# Altium footprint library LPON_CAP.PcbLib: 108 footprints (part 2 of 7)
Each footprint in its own frame and in the unit in brackets; x right, y up, seen from the top. Pads: shape width x height; smd on the part's side, far side on the other; paste and mask are expansions set on the pad; w line width, h text height; cw(c..) or ccw(c..) is an arc to the next point about the centre after c.
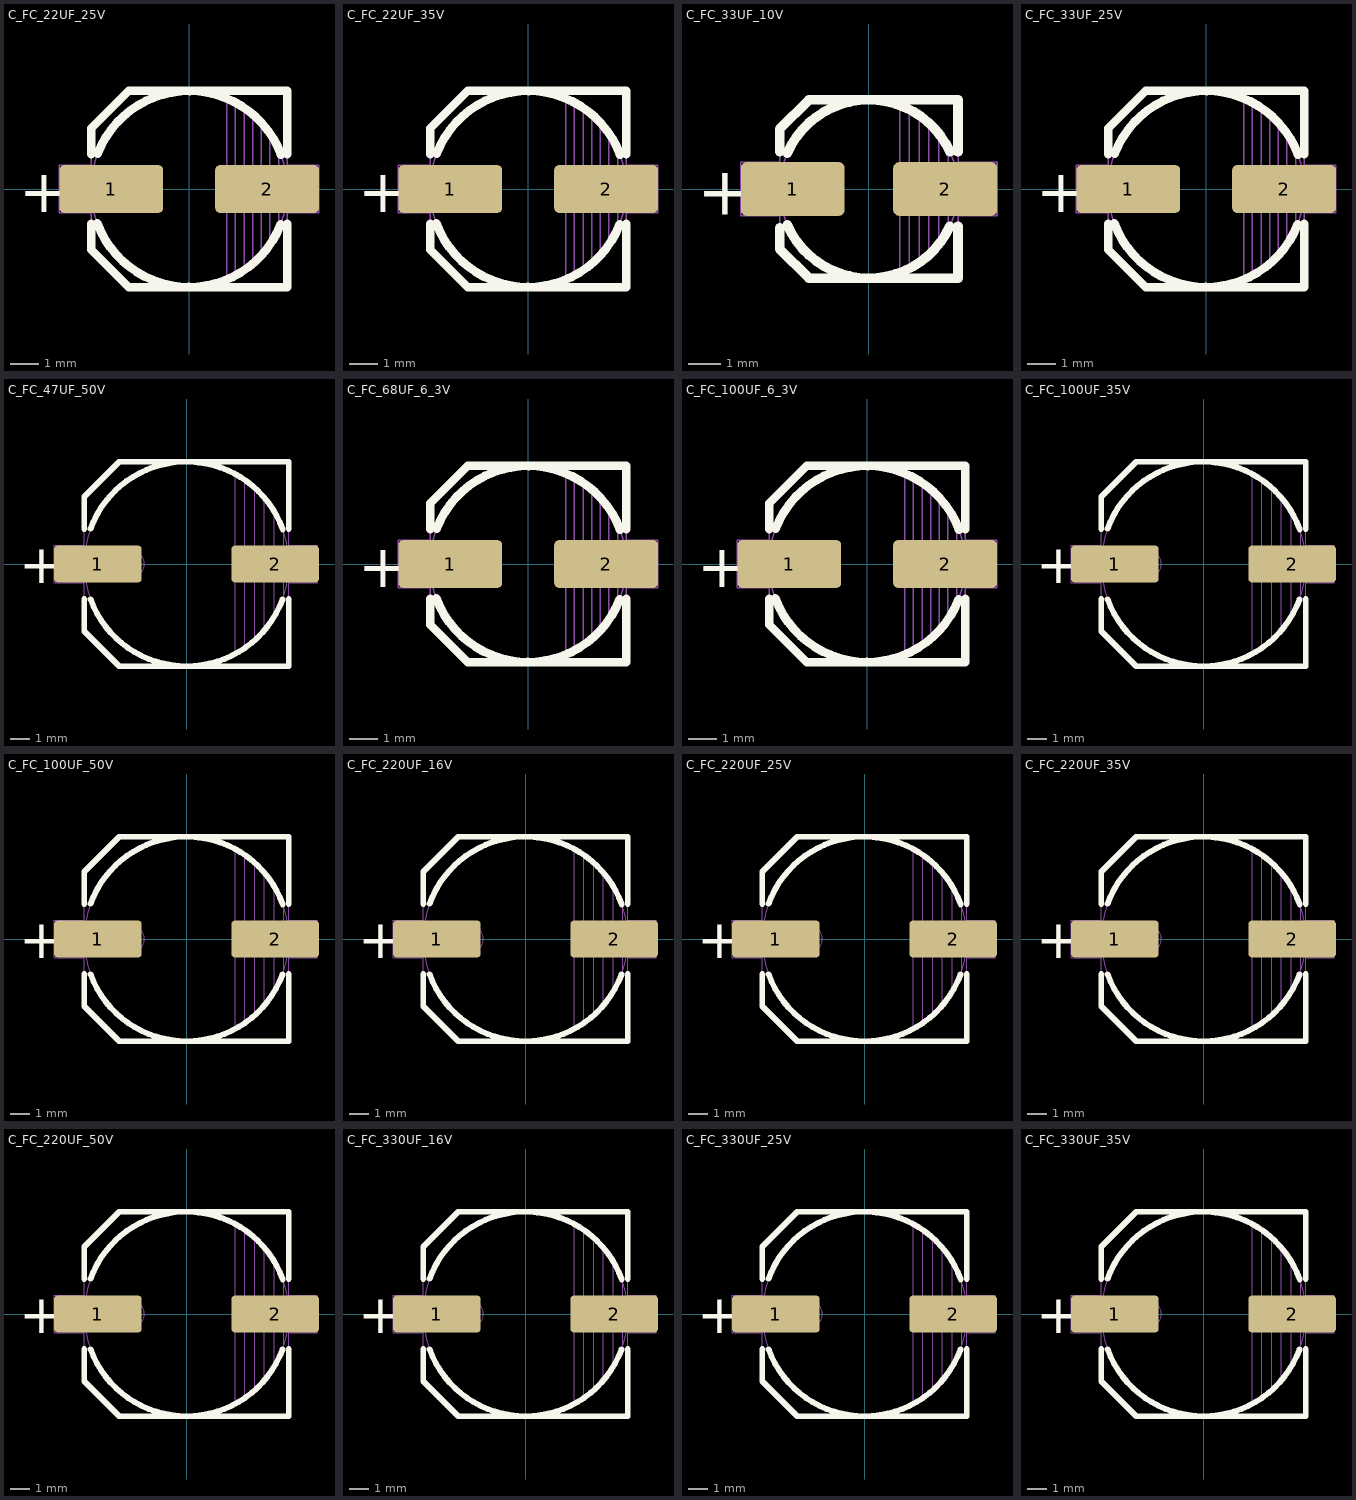
[diagram p1: the footprints below, top view; thin cyan lines are the x and y axes]

## C_FC_22UF_25V [mm] "ALUMINUM CAPACITOR 6.8x6.8x5.5mm"
height 5.5
pads (2):
  rrect20% 3.6x1.65 smd mask+0.1: 1(-2.7,0) 2(2.7,0)
Top Overlay:
  lines w0.3: -3.4,-1.2 -3.4,-2.1 -2.1,-3.4 3.4,-3.4 3.4,-1.2 ; -3.4,1.2 -3.4,2.1 -2.1,3.4 3.4,3.4 3.4,1.2 ; -3.184,-1.194 ccw(c0,0) 3.171,-1.227 ; -3.171,1.227 cw(c0,0) 3.184,1.194
  text "+" at -5.9,-0.8 h1.5
Mechanical 1:
  circle w0.05: c0,0 r3.4
  circle w0.05: c-2.54,0 r0.671
  lines w0.05: -3.4,-0.825 -4.5,-0.825 -4.5,0.825 -3.4,0.825 ; 1.3,-3.14 1.3,3.13 ; 1.6,-3 1.6,3 ; 1.9,-2.81 1.9,2.82 ; 2.2,-2.58 2.2,2.59 ; 2.5,-2.29 2.5,2.3 ; 2.8,-1.92 2.8,1.91 ; 3.1,-1.38 3.1,1.39 ; 3.4,-0.825 4.5,-0.825 4.5,0.825 3.4,0.825 ; 3.4,-3.4 3.4,3.4 ; 3.4,-3.4 3.4,3.4 ; 3.4,-3.4 -2.1,-3.4 -3.4,-2.1 -3.4,2.1 -2.1,3.4 3.4,3.4
  text "+" at -3.2,-1 h2
3D body "User Library-E-cap_H.step": height 7.7, standoff 0, extent -3.65,-3.3 3.65,3.3

## C_FC_22UF_35V [mm] "ALUMINUM CAPACITOR 6.8x6.8x5.5mm"
height 5.5
pads (2):
  rrect20% 3.6x1.65 smd mask+0.1: 1(-2.7,0) 2(2.7,0)
Top Overlay:
  lines w0.3: -3.4,-1.2 -3.4,-2.1 -2.1,-3.4 3.4,-3.4 3.4,-1.2 ; -3.4,1.2 -3.4,2.1 -2.1,3.4 3.4,3.4 3.4,1.2 ; -3.184,-1.194 ccw(c0,0) 3.171,-1.227 ; -3.171,1.227 cw(c0,0) 3.184,1.194
  text "+" at -5.9,-0.8 h1.5
Mechanical 1:
  circle w0.05: c0,0 r3.4
  circle w0.05: c-2.54,0 r0.671
  lines w0.05: -3.4,-0.825 -4.5,-0.825 -4.5,0.825 -3.4,0.825 ; 1.3,-3.14 1.3,3.13 ; 1.6,-3 1.6,3 ; 1.9,-2.81 1.9,2.82 ; 2.2,-2.58 2.2,2.59 ; 2.5,-2.29 2.5,2.3 ; 2.8,-1.92 2.8,1.91 ; 3.1,-1.38 3.1,1.39 ; 3.4,-0.825 4.5,-0.825 4.5,0.825 3.4,0.825 ; 3.4,-3.4 3.4,3.4 ; 3.4,-3.4 3.4,3.4 ; 3.4,-3.4 -2.1,-3.4 -3.4,-2.1 -3.4,2.1 -2.1,3.4 3.4,3.4
  text "+" at -3.2,-1 h2
3D body "User Library-E-cap_H.step": height 7.7, standoff 0, extent -3.65,-3.3 3.65,3.3

## C_FC_33UF_10V [mm] "ALUMINUM CAPACITOR 5.5x5.5x5.5mm"
height 5.5
pads (2):
  rrect20% 3.2x1.65 smd mask+0.1: 1(-2.35,0) 2(2.35,0)
Top Overlay:
  lines w0.3: -2.75,-1.2 -2.75,-1.85 -1.85,-2.75 2.75,-2.75 2.75,-1.15 ; -2.75,1.15 -2.75,1.85 -1.85,2.75 2.75,2.75 2.75,1.15 ; -2.517,-1.108 ccw(c0,0) 2.497,-1.152 ; -2.517,1.108 cw(c0,0) 2.5,1.146
  text "+" at -5.3,-0.8 h1.5
Mechanical 1:
  circle w0.05: c0,0 r2.75
  circle w0.05: c-1.84,0 r0.671
  lines w0.05: -2.75,-0.825 -3.95,-0.825 -3.95,0.825 -2.75,0.825 ; 0.95,-2.55 0.95,2.55 ; 1.25,-2.45 1.25,2.45 ; 1.55,-2.25 1.55,2.25 ; 1.85,-2 1.85,2 ; 2.15,-1.7 2.15,1.7 ; 2.45,-1.25 2.45,1.25 ; 2.75,-0.825 3.95,-0.825 3.95,0.825 2.75,0.825 ; -2.75,-1.85 -2.75,1.85 -1.85,2.75 2.75,2.75 2.75,-2.75 -1.85,-2.75 -2.75,-1.85
  text "+" at -2.5,-1 h2
3D body "User Library-E-cap_H.step": height 7.7, standoff 0, extent -3.65,-3.3 3.65,3.3

## C_FC_33UF_25V [mm] "ALUMINUM CAPACITOR 6.8x6.8x5.5mm"
height 5.5
pads (2):
  rrect20% 3.6x1.65 smd mask+0.1: 1(-2.7,0) 2(2.7,0)
Top Overlay:
  lines w0.3: -3.4,-1.2 -3.4,-2.1 -2.1,-3.4 3.4,-3.4 3.4,-1.2 ; -3.4,1.2 -3.4,2.1 -2.1,3.4 3.4,3.4 3.4,1.2 ; -3.184,-1.194 ccw(c0,0) 3.171,-1.227 ; -3.171,1.227 cw(c0,0) 3.184,1.194
  text "+" at -5.9,-0.8 h1.5
Mechanical 1:
  circle w0.05: c0,0 r3.4
  circle w0.05: c-2.54,0 r0.671
  lines w0.05: -3.4,-0.825 -4.5,-0.825 -4.5,0.825 -3.4,0.825 ; 1.3,-3.14 1.3,3.13 ; 1.6,-3 1.6,3 ; 1.9,-2.81 1.9,2.82 ; 2.2,-2.58 2.2,2.59 ; 2.5,-2.29 2.5,2.3 ; 2.8,-1.92 2.8,1.91 ; 3.1,-1.38 3.1,1.39 ; 3.4,-0.825 4.5,-0.825 4.5,0.825 3.4,0.825 ; 3.4,-3.4 3.4,3.4 ; 3.4,-3.4 3.4,3.4 ; 3.4,-3.4 -2.1,-3.4 -3.4,-2.1 -3.4,2.1 -2.1,3.4 3.4,3.4
  text "+" at -3.2,-1 h2
3D body "User Library-E-cap_H.step": height 7.7, standoff 0, extent -3.65,-3.3 3.65,3.3

## C_FC_47UF_50V [mm] "ALUMINUM CAPACITOR 10.5x10.5x10.5mm"
height 10.5
pads (2):
  rrect20% 4.5x1.9 smd mask+0.1: 1(-4.55,0) 2(4.55,0)
Top Overlay:
  lines w0.3: -5.25,-1.8 -5.25,-3.45 -3.45,-5.25 5.25,-5.25 5.25,-1.8 ; -5.25,1.8 -5.25,3.45 -3.45,5.25 5.25,5.25 5.25,1.8 ; -4.928,-1.81 ccw(c0,0) 4.928,-1.81 ; -4.928,1.81 cw(c0,0) 4.94,1.778
  text "+" at -8.6,-1 h2
Mechanical 1:
  circle w0.05: c-2.84,0 r0.671
  circle w0.05: c0,0 r5.25
  lines w0.05: -5.25,-0.95 -6.8,-0.95 -6.8,0.95 -5.25,0.95 ; 2.5,-4.6 2.5,4.6 ; 3,-4.3 3,4.3 ; 3.5,-3.9 3.5,3.9 ; 4,-3.4 4,3.4 ; 4.5,-2.7 4.5,2.7 ; 5,-1.6 5,1.6 ; 5.25,-0.95 6.7,-0.95 6.7,0.95 5.25,0.95 ; -5.25,-3.45 -3.45,-5.25 5.25,-5.25 5.25,5.25 -3.45,5.25 -5.25,3.45 -5.25,-3.45
  text "+" at -3.5,-1 h2
3D body "User Library-cap_10x10x10-1.STEP": height 10.5, standoff 0, extent -5.901,-5.25 5.899,5.25

## C_FC_68UF_6_3V [mm] "ALUMINUM CAPACITOR 6.8x6.8x5.5mm"
height 5.5
pads (2):
  rrect20% 3.6x1.65 smd mask+0.1: 1(-2.7,0) 2(2.7,0)
Top Overlay:
  lines w0.3: -3.4,-1.2 -3.4,-2.1 -2.1,-3.4 3.4,-3.4 3.4,-1.2 ; -3.4,1.2 -3.4,2.1 -2.1,3.4 3.4,3.4 3.4,1.2 ; -3.184,-1.194 ccw(c0,0) 3.171,-1.227 ; -3.171,1.227 cw(c0,0) 3.184,1.194
  text "+" at -5.9,-0.8 h1.5
Mechanical 1:
  circle w0.05: c0,0 r3.4
  circle w0.05: c-2.54,0 r0.671
  lines w0.05: -3.4,-0.825 -4.5,-0.825 -4.5,0.825 -3.4,0.825 ; 1.3,-3.14 1.3,3.13 ; 1.6,-3 1.6,3 ; 1.9,-2.81 1.9,2.82 ; 2.2,-2.58 2.2,2.59 ; 2.5,-2.29 2.5,2.3 ; 2.8,-1.92 2.8,1.91 ; 3.1,-1.38 3.1,1.39 ; 3.4,-0.825 4.5,-0.825 4.5,0.825 3.4,0.825 ; 3.4,-3.4 3.4,3.4 ; 3.4,-3.4 3.4,3.4 ; 3.4,-3.4 -2.1,-3.4 -3.4,-2.1 -3.4,2.1 -2.1,3.4 3.4,3.4
  text "+" at -3.2,-1 h2
3D body "User Library-E-cap_H.step": height 7.7, standoff 0, extent -3.65,-3.3 3.65,3.3

## C_FC_100UF_6_3V [mm] "ALUMINUM CAPACITOR 6.8x6.8x5.5mm"
height 5.5
pads (2):
  rrect20% 3.6x1.65 smd mask+0.1: 1(-2.7,0) 2(2.7,0)
Top Overlay:
  lines w0.3: -3.4,-1.2 -3.4,-2.1 -2.1,-3.4 3.4,-3.4 3.4,-1.2 ; -3.4,1.2 -3.4,2.1 -2.1,3.4 3.4,3.4 3.4,1.2 ; -3.184,-1.194 ccw(c0,0) 3.171,-1.227 ; -3.171,1.227 cw(c0,0) 3.184,1.194
  text "+" at -5.9,-0.8 h1.5
Mechanical 1:
  circle w0.05: c0,0 r3.4
  circle w0.05: c-2.54,0 r0.671
  lines w0.05: -3.4,-0.825 -4.5,-0.825 -4.5,0.825 -3.4,0.825 ; 1.3,-3.14 1.3,3.13 ; 1.6,-3 1.6,3 ; 1.9,-2.81 1.9,2.82 ; 2.2,-2.58 2.2,2.59 ; 2.5,-2.29 2.5,2.3 ; 2.8,-1.92 2.8,1.91 ; 3.1,-1.38 3.1,1.39 ; 3.4,-0.825 4.5,-0.825 4.5,0.825 3.4,0.825 ; 3.4,-3.4 3.4,3.4 ; 3.4,-3.4 3.4,3.4 ; 3.4,-3.4 -2.1,-3.4 -3.4,-2.1 -3.4,2.1 -2.1,3.4 3.4,3.4
  text "+" at -3.2,-1 h2
3D body "User Library-E-cap_H.step": height 7.7, standoff 0, extent -3.65,-3.3 3.65,3.3

## C_FC_100UF_35V [mm] "ALUMINUM CAPACITOR 10.5x10.5x10.5mm"
height 10.5
pads (2):
  rrect20% 4.5x1.9 smd mask+0.1: 1(-4.55,0) 2(4.55,0)
Top Overlay:
  lines w0.3: -5.25,-1.8 -5.25,-3.45 -3.45,-5.25 5.25,-5.25 5.25,-1.8 ; -5.25,1.8 -5.25,3.45 -3.45,5.25 5.25,5.25 5.25,1.8 ; -4.928,-1.81 ccw(c0,0) 4.928,-1.81 ; -4.928,1.81 cw(c0,0) 4.94,1.778
  text "+" at -8.6,-1 h2
Mechanical 1:
  circle w0.05: c0,0 r5.25
  circle w0.05: c-2.84,0 r0.671
  lines w0.05: -5.25,-0.95 -6.8,-0.95 -6.8,0.95 -5.25,0.95 ; 2.5,-4.6 2.5,4.6 ; 3,-4.3 3,4.3 ; 3.5,-3.9 3.5,3.9 ; 4,-3.4 4,3.4 ; 4.5,-2.7 4.5,2.7 ; 5,-1.6 5,1.6 ; 5.25,-0.95 6.7,-0.95 6.7,0.95 5.25,0.95 ; -5.25,-3.45 -5.25,3.45 -3.45,5.25 5.25,5.25 5.25,-5.25 -3.45,-5.25 -5.25,-3.45
  text "+" at -3.5,-1 h2
3D body "User Library-cap_10x10x10-1.STEP": height 10.5, standoff 0, extent -5.901,-5.25 5.899,5.25

## C_FC_100UF_50V [mm] "ALUMINUM CAPACITOR 10.5x10.5x10.5mm"
height 10.5
pads (2):
  rrect20% 4.5x1.9 smd mask+0.1: 1(-4.55,0) 2(4.55,0)
Top Overlay:
  lines w0.3: -5.25,-1.8 -5.25,-3.45 -3.45,-5.25 5.25,-5.25 5.25,-1.8 ; -5.25,1.8 -5.25,3.45 -3.45,5.25 5.25,5.25 5.25,1.8 ; -4.928,-1.81 ccw(c0,0) 4.928,-1.81 ; -4.928,1.81 cw(c0,0) 4.94,1.778
  text "+" at -8.6,-1 h2
Mechanical 1:
  circle w0.05: c0,0 r5.25
  circle w0.05: c-2.84,0 r0.671
  lines w0.05: -5.25,-0.95 -6.8,-0.95 -6.8,0.95 -5.25,0.95 ; 2.5,-4.6 2.5,4.6 ; 3,-4.3 3,4.3 ; 3.5,-3.9 3.5,3.9 ; 4,-3.4 4,3.4 ; 4.5,-2.7 4.5,2.7 ; 5,-1.6 5,1.6 ; 5.25,-0.95 6.7,-0.95 6.7,0.95 5.25,0.95 ; -5.25,-3.45 -5.25,3.45 -3.45,5.25 5.25,5.25 5.25,-5.25 -3.45,-5.25 -5.25,-3.45
  text "+" at -3.5,-1 h2
3D body "User Library-cap_10x10x10-1.STEP": height 10.5, standoff 0, extent -5.901,-5.25 5.899,5.25

## C_FC_220UF_16V [mm] "ALUMINUM CAPACITOR 10.5x10.5x10.5mm"
height 10.5
pads (2):
  rrect20% 4.5x1.9 smd mask+0.1: 1(-4.55,0) 2(4.55,0)
Top Overlay:
  lines w0.3: -5.25,-1.8 -5.25,-3.45 -3.45,-5.25 5.25,-5.25 5.25,-1.8 ; -5.25,1.8 -5.25,3.45 -3.45,5.25 5.25,5.25 5.25,1.8 ; -4.928,-1.81 ccw(c0,0) 4.928,-1.81 ; -4.928,1.81 cw(c0,0) 4.94,1.778
  text "+" at -8.6,-1 h2
Mechanical 1:
  circle w0.05: c-2.84,0 r0.671
  circle w0.05: c0,0 r5.25
  lines w0.05: -5.25,-0.95 -6.8,-0.95 -6.8,0.95 -5.25,0.95 ; 2.5,-4.6 2.5,4.6 ; 3,-4.3 3,4.3 ; 3.5,-3.9 3.5,3.9 ; 4,-3.4 4,3.4 ; 4.5,-2.7 4.5,2.7 ; 5,-1.6 5,1.6 ; 5.25,-0.95 6.7,-0.95 6.7,0.95 5.25,0.95 ; -5.25,-3.45 -3.45,-5.25 5.25,-5.25 5.25,5.25 -3.45,5.25 -5.25,3.45 -5.25,-3.45
  text "+" at -3.5,-1 h2
3D body "User Library-cap_10x10x10-1.STEP": height 10.5, standoff 0, extent -5.901,-5.25 5.899,5.25

## C_FC_220UF_25V [mm] "ALUMINUM CAPACITOR 10.5x10.5x10.5mm"
height 10.5
pads (2):
  rrect20% 4.5x1.9 smd mask+0.1: 1(-4.55,0) 2(4.55,0)
Top Overlay:
  lines w0.3: -5.25,-1.8 -5.25,-3.45 -3.45,-5.25 5.25,-5.25 5.25,-1.8 ; -5.25,1.8 -5.25,3.45 -3.45,5.25 5.25,5.25 5.25,1.8 ; -4.928,-1.81 ccw(c0,0) 4.928,-1.81 ; -4.928,1.81 cw(c0,0) 4.94,1.778
  text "+" at -8.6,-1 h2
Mechanical 1:
  circle w0.05: c-2.84,0 r0.671
  circle w0.05: c0,0 r5.25
  lines w0.05: -5.25,-0.95 -6.8,-0.95 -6.8,0.95 -5.25,0.95 ; 2.5,-4.6 2.5,4.6 ; 3,-4.3 3,4.3 ; 3.5,-3.9 3.5,3.9 ; 4,-3.4 4,3.4 ; 4.5,-2.7 4.5,2.7 ; 5,-1.6 5,1.6 ; 5.25,-0.95 6.7,-0.95 6.7,0.95 5.25,0.95 ; -5.25,-3.45 -3.45,-5.25 5.25,-5.25 5.25,5.25 -3.45,5.25 -5.25,3.45 -5.25,-3.45
  text "+" at -3.5,-1 h2
3D body "User Library-cap_10x10x10-1.STEP": height 10.5, standoff 0, extent -5.901,-5.25 5.899,5.25

## C_FC_220UF_35V [mm] "ALUMINUM CAPACITOR 10.5x10.5x10.5mm"
height 10.5
pads (2):
  rrect20% 4.5x1.9 smd mask+0.1: 1(-4.55,0) 2(4.55,0)
Top Overlay:
  lines w0.3: -5.25,-1.8 -5.25,-3.45 -3.45,-5.25 5.25,-5.25 5.25,-1.8 ; -5.25,1.8 -5.25,3.45 -3.45,5.25 5.25,5.25 5.25,1.8 ; -4.928,-1.81 ccw(c0,0) 4.928,-1.81 ; -4.928,1.81 cw(c0,0) 4.94,1.778
  text "+" at -8.6,-1 h2
Mechanical 1:
  circle w0.05: c0,0 r5.25
  circle w0.05: c-2.84,0 r0.671
  lines w0.05: -5.25,-0.95 -6.8,-0.95 -6.8,0.95 -5.25,0.95 ; 2.5,-4.6 2.5,4.6 ; 3,-4.3 3,4.3 ; 3.5,-3.9 3.5,3.9 ; 4,-3.4 4,3.4 ; 4.5,-2.7 4.5,2.7 ; 5,-1.6 5,1.6 ; 5.25,-0.95 6.7,-0.95 6.7,0.95 5.25,0.95 ; -5.25,-3.45 -5.25,3.45 -3.45,5.25 5.25,5.25 5.25,-5.25 -3.45,-5.25 -5.25,-3.45
  text "+" at -3.5,-1 h2
3D body "User Library-cap_10x10x10-1.STEP": height 10.5, standoff 0, extent -5.901,-5.25 5.899,5.25

## C_FC_220UF_50V [mm] "ALUMINUM CAPACITOR 10.5x10.5x10.5mm"
height 10.5
pads (2):
  rrect20% 4.5x1.9 smd mask+0.1: 1(-4.55,0) 2(4.55,0)
Top Overlay:
  lines w0.3: -5.25,-1.8 -5.25,-3.45 -3.45,-5.25 5.25,-5.25 5.25,-1.8 ; -5.25,1.8 -5.25,3.45 -3.45,5.25 5.25,5.25 5.25,1.8 ; -4.928,-1.81 ccw(c0,0) 4.928,-1.81 ; -4.928,1.81 cw(c0,0) 4.94,1.778
  text "+" at -8.6,-1 h2
Mechanical 1:
  circle w0.05: c-2.84,0 r0.671
  circle w0.05: c0,0 r5.25
  lines w0.05: -5.25,-0.95 -6.8,-0.95 -6.8,0.95 -5.25,0.95 ; 2.5,-4.6 2.5,4.6 ; 3,-4.3 3,4.3 ; 3.5,-3.9 3.5,3.9 ; 4,-3.4 4,3.4 ; 4.5,-2.7 4.5,2.7 ; 5,-1.6 5,1.6 ; 5.25,-0.95 6.7,-0.95 6.7,0.95 5.25,0.95 ; -5.25,-3.45 -3.45,-5.25 5.25,-5.25 5.25,5.25 -3.45,5.25 -5.25,3.45 -5.25,-3.45
  text "+" at -3.5,-1 h2
3D body "User Library-cap_10x10x10-1.STEP": height 10.5, standoff 0, extent -5.901,-5.25 5.899,5.25

## C_FC_330UF_16V [mm] "ALUMINUM CAPACITOR 10.5x10.5x10.5mm"
height 10.5
pads (2):
  rrect20% 4.5x1.9 smd mask+0.1: 1(-4.55,0) 2(4.55,0)
Top Overlay:
  lines w0.3: -5.25,-1.8 -5.25,-3.45 -3.45,-5.25 5.25,-5.25 5.25,-1.8 ; -5.25,1.8 -5.25,3.45 -3.45,5.25 5.25,5.25 5.25,1.8 ; -4.928,-1.81 ccw(c0,0) 4.928,-1.81 ; -4.928,1.81 cw(c0,0) 4.94,1.778
  text "+" at -8.6,-1 h2
Mechanical 1:
  circle w0.05: c-2.84,0 r0.671
  circle w0.05: c0,0 r5.25
  lines w0.05: -5.25,-0.95 -6.8,-0.95 -6.8,0.95 -5.25,0.95 ; 2.5,-4.6 2.5,4.6 ; 3,-4.3 3,4.3 ; 3.5,-3.9 3.5,3.9 ; 4,-3.4 4,3.4 ; 4.5,-2.7 4.5,2.7 ; 5,-1.6 5,1.6 ; 5.25,-0.95 6.7,-0.95 6.7,0.95 5.25,0.95 ; -5.25,-3.45 -3.45,-5.25 5.25,-5.25 5.25,5.25 -3.45,5.25 -5.25,3.45 -5.25,-3.45
  text "+" at -3.5,-1 h2
3D body "User Library-cap_10x10x10-1.STEP": height 10.5, standoff 0, extent -5.901,-5.25 5.899,5.25

## C_FC_330UF_25V [mm] "ALUMINUM CAPACITOR 10.5x10.5x10.5mm"
height 10.5
pads (2):
  rrect20% 4.5x1.9 smd mask+0.1: 1(-4.55,0) 2(4.55,0)
Top Overlay:
  lines w0.3: -5.25,-1.8 -5.25,-3.45 -3.45,-5.25 5.25,-5.25 5.25,-1.8 ; -5.25,1.8 -5.25,3.45 -3.45,5.25 5.25,5.25 5.25,1.8 ; -4.928,-1.81 ccw(c0,0) 4.928,-1.81 ; -4.928,1.81 cw(c0,0) 4.94,1.778
  text "+" at -8.6,-1 h2
Mechanical 1:
  circle w0.05: c-2.84,0 r0.671
  circle w0.05: c0,0 r5.25
  lines w0.05: -5.25,-0.95 -6.8,-0.95 -6.8,0.95 -5.25,0.95 ; 2.5,-4.6 2.5,4.6 ; 3,-4.3 3,4.3 ; 3.5,-3.9 3.5,3.9 ; 4,-3.4 4,3.4 ; 4.5,-2.7 4.5,2.7 ; 5,-1.6 5,1.6 ; 5.25,-0.95 6.7,-0.95 6.7,0.95 5.25,0.95 ; -5.25,-3.45 -3.45,-5.25 5.25,-5.25 5.25,5.25 -3.45,5.25 -5.25,3.45 -5.25,-3.45
  text "+" at -3.5,-1 h2
3D body "User Library-cap_10x10x10-1.STEP": height 10.5, standoff 0, extent -5.901,-5.25 5.899,5.25

## C_FC_330UF_35V [mm] "ALUMINUM CAPACITOR 10.5x10.5x10.5mm"
height 10.5
pads (2):
  rrect20% 4.5x1.9 smd mask+0.1: 1(-4.55,0) 2(4.55,0)
Top Overlay:
  lines w0.3: -5.25,-1.8 -5.25,-3.45 -3.45,-5.25 5.25,-5.25 5.25,-1.8 ; -5.25,1.8 -5.25,3.45 -3.45,5.25 5.25,5.25 5.25,1.8 ; -4.928,-1.81 ccw(c0,0) 4.928,-1.81 ; -4.928,1.81 cw(c0,0) 4.94,1.778
  text "+" at -8.6,-1 h2
Mechanical 1:
  circle w0.05: c0,0 r5.25
  circle w0.05: c-2.84,0 r0.671
  lines w0.05: -5.25,-0.95 -6.8,-0.95 -6.8,0.95 -5.25,0.95 ; 2.5,-4.6 2.5,4.6 ; 3,-4.3 3,4.3 ; 3.5,-3.9 3.5,3.9 ; 4,-3.4 4,3.4 ; 4.5,-2.7 4.5,2.7 ; 5,-1.6 5,1.6 ; 5.25,-0.95 6.7,-0.95 6.7,0.95 5.25,0.95 ; -5.25,-3.45 -5.25,3.45 -3.45,5.25 5.25,5.25 5.25,-5.25 -3.45,-5.25 -5.25,-3.45
  text "+" at -3.5,-1 h2
3D body "User Library-cap_10x10x10-1.STEP": height 10.5, standoff 0, extent -5.901,-5.25 5.899,5.25